# EAGLE library part PIC24FJ128GA010-I/PT (library PIC24FJ128GA010-I_PT)
Check prices <https://pricing.snapeda.com/parts/PIC24FJ128GA010-I/PT/Microchip/view-part?ref=eda>
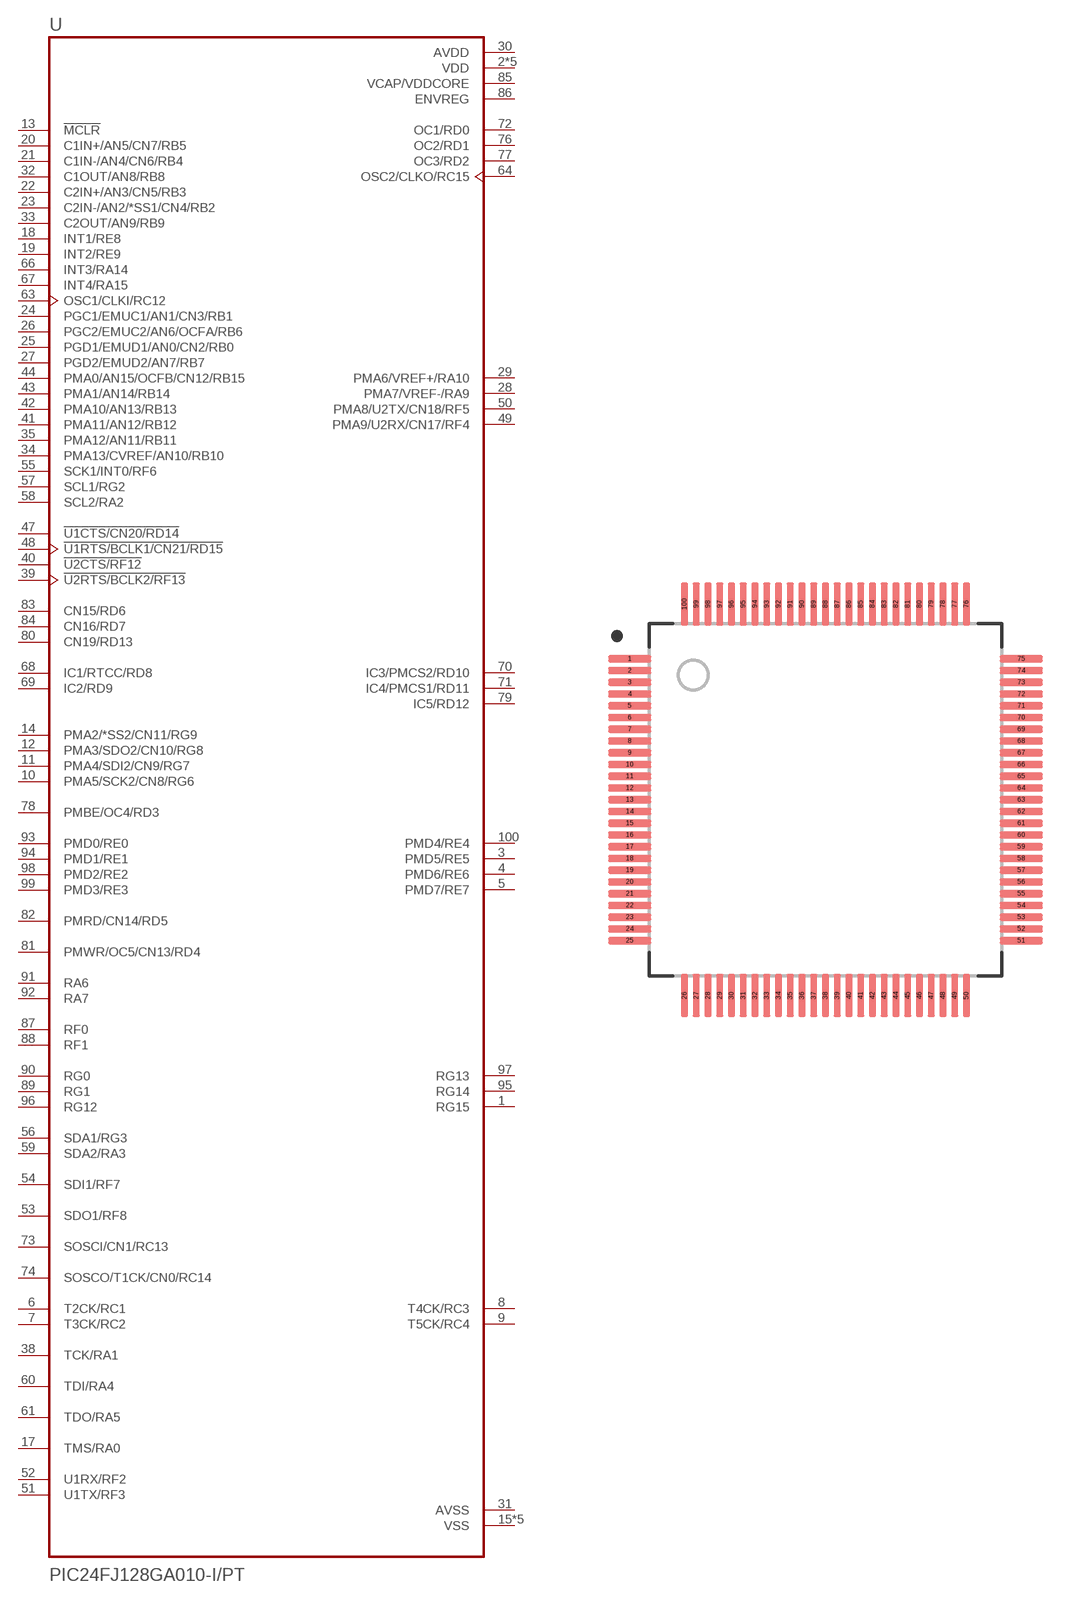
[diagram p0: symbol with the pads of QFP40P1400X1400X120-100N; footprint QFP40P1400X1400X120-100N]

Designator prefix U

## PIC24FJ128GA010-I/PT (Availability: Warning; Description: PIC PIC® 24F Microcontroller IC 16-Bit 16MHz 128KB (43K x 24) FLASH 100-TQFP (12x12); MF: Microchip; MP: PIC24FJ128GA010-I/PT; Package: TQFP-100 Microchip; Price: None; Purchase-URL: https://pricing.snapeda.com/search/part/PIC24FJ128GA010-I/PT/?ref=eda)  [QFP40P1400X1400X120-100N]
1  RG15
2  VDD  pwr
3  PMD5/RE5
4  PMD6/RE6
5  PMD7/RE7
6  T2CK/RC1
7  T3CK/RC2
8  T4CK/RC3
9  T5CK/RC4
10  PMA5/SCK2/CN8/RG6
11  PMA4/SDI2/CN9/RG7
12  PMA3/SDO2/CN10/RG8
13  !MCLR  in
14  PMA2/*SS2/CN11/RG9
15  VSS  pwr
16  VDD  pwr
17  TMS/RA0
18  INT1/RE8  in
19  INT2/RE9  in
20  C1IN+/AN5/CN7/RB5  in
21  C1IN-/AN4/CN6/RB4  in
22  C2IN+/AN3/CN5/RB3  in
23  C2IN-/AN2/*SS1/CN4/RB2  in
24  PGC1/EMUC1/AN1/CN3/RB1  in
25  PGD1/EMUD1/AN0/CN2/RB0  in
26  PGC2/EMUC2/AN6/OCFA/RB6  in
27  PGD2/EMUD2/AN7/RB7  in
28  PMA7/VREF-/RA9
29  PMA6/VREF+/RA10
30  AVDD  pwr
31  AVSS  pwr
32  C1OUT/AN8/RB8  in
33  C2OUT/AN9/RB9  in
34  PMA13/CVREF/AN10/RB10  in
35  PMA12/AN11/RB11  in
36  VSS  pwr
37  VDD  pwr
38  TCK/RA1
39  !U2RTS/BCLK2/RF13
40  !U2CTS/RF12
41  PMA11/AN12/RB12  in
42  PMA10/AN13/RB13  in
43  PMA1/AN14/RB14  in
44  PMA0/AN15/OCFB/CN12/RB15  in
45  VSS  pwr
46  VDD  pwr
47  !U1CTS/CN20/RD14
48  !U1RTS/BCLK1/CN21/RD15
49  PMA9/U2RX/CN17/RF4
50  PMA8/U2TX/CN18/RF5
51  U1TX/RF3
52  U1RX/RF2
53  SDO1/RF8
54  SDI1/RF7
55  SCK1/INT0/RF6  in
56  SDA1/RG3
57  SCL1/RG2  in
58  SCL2/RA2  in
59  SDA2/RA3
60  TDI/RA4
61  TDO/RA5
62  VDD  pwr
63  OSC1/CLKI/RC12  in
64  OSC2/CLKO/RC15  out
65  VSS  pwr
66  INT3/RA14  in
67  INT4/RA15  in
68  IC1/RTCC/RD8
69  IC2/RD9
70  IC3/PMCS2/RD10
71  IC4/PMCS1/RD11
72  OC1/RD0  out
73  SOSCI/CN1/RC13
74  SOSCO/T1CK/CN0/RC14
75  VSS  pwr
76  OC2/RD1  out
77  OC3/RD2  out
78  PMBE/OC4/RD3
79  IC5/RD12
80  CN19/RD13
81  PMWR/OC5/CN13/RD4
82  PMRD/CN14/RD5
83  CN15/RD6
84  CN16/RD7
85  VCAP/VDDCORE  pwr
86  ENVREG  pwr
87  RF0
88  RF1
89  RG1
90  RG0
91  RA6
92  RA7
93  PMD0/RE0
94  PMD1/RE1
95  RG14
96  RG12
97  RG13
98  PMD2/RE2
99  PMD3/RE3
100  PMD4/RE4

## Footprint QFP40P1400X1400X120-100N (pad centres in mm)
smd 1.47 x 0.24: 1 -6.67,4.8; 2 -6.67,4.4; 3 -6.67,4; 4 -6.67,3.6; 5 -6.67,3.2; 6 -6.67,2.8; 7 -6.67,2.4; 8 -6.67,2; 9 -6.67,1.6; 10 -6.67,1.2; 11 -6.67,0.8; 12 -6.67,0.4; 13 -6.67,0; 14 -6.67,-0.4; 15 -6.67,-0.8; 16 -6.67,-1.2; 17 -6.67,-1.6; 18 -6.67,-2; 19 -6.67,-2.4; 20 -6.67,-2.8; 21 -6.67,-3.2; 22 -6.67,-3.6; 23 -6.67,-4; 24 -6.67,-4.4; 25 -6.67,-4.8; 51 6.67,-4.8; 52 6.67,-4.4; 53 6.67,-4; 54 6.67,-3.6; 55 6.67,-3.2; 56 6.67,-2.8; 57 6.67,-2.4; 58 6.67,-2; 59 6.67,-1.6; 60 6.67,-1.2; 61 6.67,-0.8; 62 6.67,-0.4; 63 6.67,0; 64 6.67,0.4; 65 6.67,0.8; 66 6.67,1.2; 67 6.67,1.6; 68 6.67,2; 69 6.67,2.4; 70 6.67,2.8; 71 6.67,3.2; 72 6.67,3.6; 73 6.67,4; 74 6.67,4.4; 75 6.67,4.8
smd 0.24 x 1.47: 26 -4.8,-6.67; 27 -4.4,-6.67; 28 -4,-6.67; 29 -3.6,-6.67; 30 -3.2,-6.67; 31 -2.8,-6.67; 32 -2.4,-6.67; 33 -2,-6.67; 34 -1.6,-6.67; 35 -1.2,-6.67; 36 -0.8,-6.67; 37 -0.4,-6.67; 38 0,-6.67; 39 0.4,-6.67; 40 0.8,-6.67; 41 1.2,-6.67; 42 1.6,-6.67; 43 2,-6.67; 44 2.4,-6.67; 45 2.8,-6.67; 46 3.2,-6.67; 47 3.6,-6.67; 48 4,-6.67; 49 4.4,-6.67; 50 4.8,-6.67; 76 4.8,6.67; 77 4.4,6.67; 78 4,6.67; 79 3.6,6.67; 80 3.2,6.67; 81 2.8,6.67; 82 2.4,6.67; 83 2,6.67; 84 1.6,6.67; 85 1.2,6.67; 86 0.8,6.67; 87 0.4,6.67; 88 0,6.67; 89 -0.4,6.67; 90 -0.8,6.67; 91 -1.2,6.67; 92 -1.6,6.67; 93 -2,6.67; 94 -2.4,6.67; 95 -2.8,6.67; 96 -3.2,6.67; 97 -3.6,6.67; 98 -4,6.67; 99 -4.4,6.67; 100 -4.8,6.67